# Altium footprint library CA_CANSMD103_H100.PcbLib: 1 footprints
Each footprint in its own frame and in the unit in brackets; x right, y up, seen from the top. Pads: shape width x height; smd on the part's side, far side on the other; paste and mask are expansions set on the pad; w line width, h text height; cw(c..) or ccw(c..) is an arc to the next point about the centre after c.
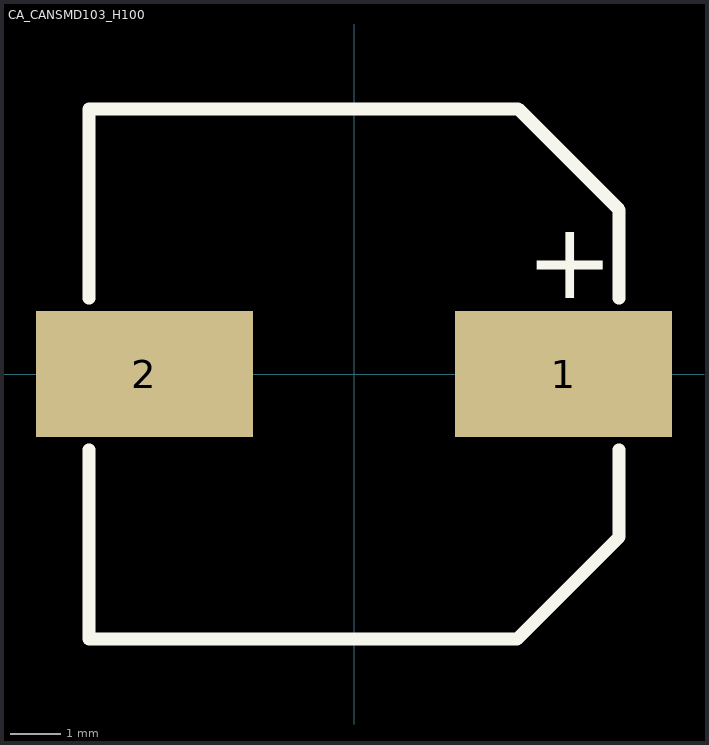
[diagram p0: the footprint, top view; thin cyan lines are the x and y axes]

## CA_CANSMD103_H100 [mm] "SMD elco 10x10mm"
height 10
pads (2):
  rect 4.3x2.5 smd: 1(4.15,0) 2(-4.15,0)
Top Overlay:
  lines w0.254: -5.25,-1.5 -5.25,-5.25 3.225,-5.25 5.25,-3.225 5.25,-1.5 ; -5.25,1.5 -5.25,5.25 3.25,5.25 5.25,3.25 5.25,1.5
  text "+" at 3.4,1.5 h1.52
3D body: height 10.2, standoff 0, extent -5.8,-5.15 5.8,5.15